# Altium footprint library RD_PCB_TEST1.PcbLib: 37 footprints (part 2 of 3)
Each footprint in its own frame and in the unit in brackets; x right, y up, seen from the top. Pads: shape width x height; smd on the part's side, far side on the other; paste and mask are expansions set on the pad; w line width, h text height; cw(c..) or ccw(c..) is an arc to the next point about the centre after c.
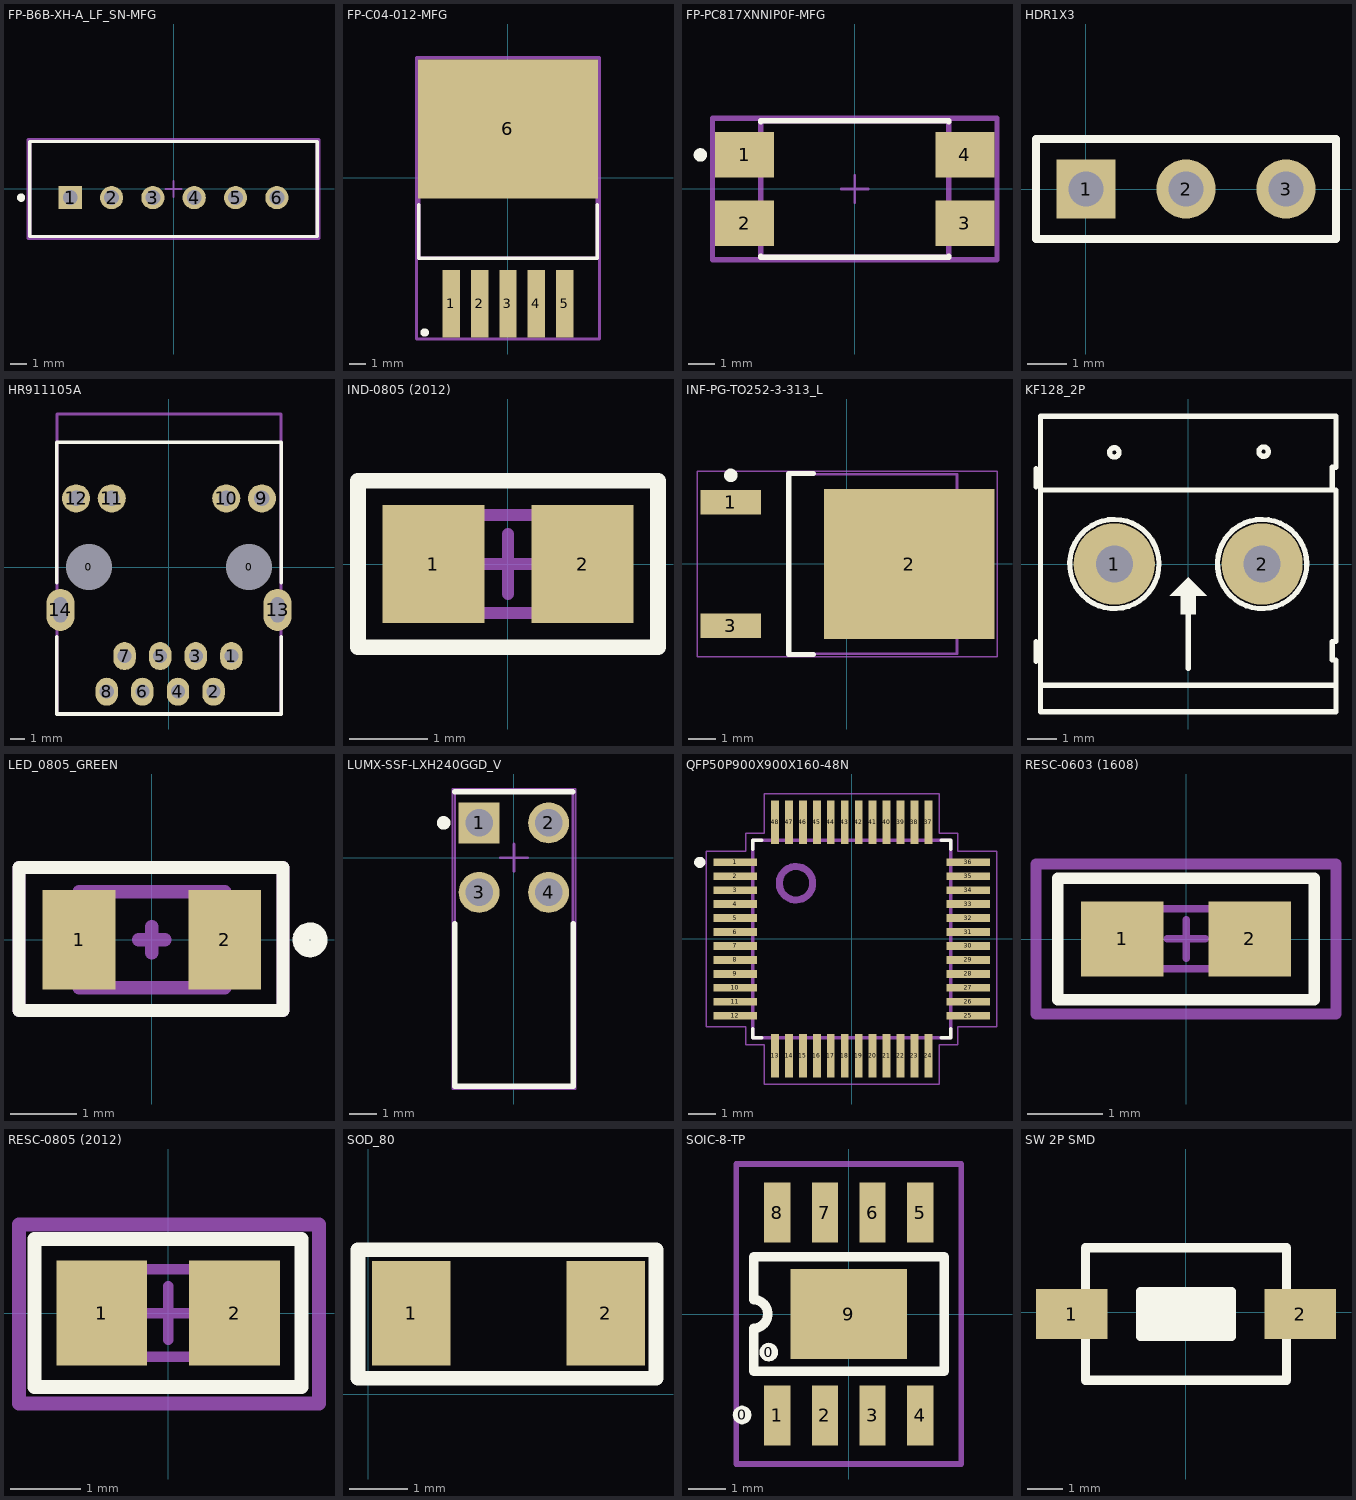
[diagram p1: the footprints below, top view; thin cyan lines are the x and y axes]

## FP-B6B-XH-A_LF_SN-MFG [mm]
pads (6):
  rect 1.4x1.4 hole 0.9 paste+0 mask+0: 1(-6.25,-0.525)
  round 1.4 hole 0.9 paste+0 mask+0: 2(-3.75,-0.525) 3(-1.25,-0.525) 4(1.25,-0.525) 5(3.75,-0.525) 6(6.25,-0.525)
Top Overlay:
  circle w0.25: c-9.225,-0.525 r0.125
  lines w0.2: -8.7,-2.875 8.7,-2.875 8.7,2.875 -8.7,2.875 -8.7,-2.875
Top Component Center:
  lines w0.1: -0.5,0 0.5,0 ; 0,-0.5 0,0.5
Top Assembly:
  lines w0.2: -8.8,-2.975 8.8,-2.975 8.8,2.975 -8.8,2.975 -8.8,-2.975
  text ".Designator" at 0,0.188 h1
Top 3D Body:
  lines w0.2: -8.7,-2.875 8.7,-2.875 8.7,2.875 -8.7,2.875 -8.7,-2.875
Top Courtyard:
  lines w0.2: -8.8,-2.975 8.8,-2.975 8.8,2.975 -8.8,2.975 -8.8,-2.975
3D body "Conn_JST_B6B-XH-A_LF_SN_eec.STEP": height 0.25, standoff 0, extent -8.8,-2.975 8.8,2.975

## FP-C04-012-MFG [mil]
height 21.65
pads (6):
  rect 41x159 smd paste+0 mask+0: 1(-134,-296.75) 2(-67,-296.75) 3(0,-296.75) 4(67,-296.75) 5(134,-296.75)
  rect 423x327 smd paste+0 mask+0: 6(0,114.75)
Top Overlay:
  circle w9.84: c-196.22,-364.89 r4.92
  lines w7.87: -210,-63.51 -210,-190 210,-190 210,-63.51
Top Component Center:
  lines w3.94: -19.68,0 19.69,0 ; 0,-19.68 0,19.69
Top Assembly:
  lines w7.87: -215.44,-380.19 -215.44,282.19 215.44,282.19 215.44,-380.19 -215.44,-380.19
  text ".Designator" at 0,-50.79 h30
Top 3D Body:
  lines w7.87: -210,-190 -210,190 210,190 210,-190 -210,-190
Top Courtyard:
  lines w7.87: -215.44,-380.19 -215.44,282.19 215.44,282.19 215.44,-380.19 -215.44,-380.19
3D body "IC_Microchip_MIC29302WU-TR_eec.STEP": height 10, standoff 0, extent -215.44,-380.19 215.44,282.19

## FP-PC817XNNIP0F-MFG [mm]
height 2
pads (4):
  rect 2.2x1.7 smd paste+0 mask+0: 1(-4.1,1.27) 2(-4.1,-1.27) 3(4.1,-1.27) 4(4.1,1.27)
Top Overlay:
  circle w0.25: c-5.75,1.27 r0.125
  lines w0.2: -3.5,-2.495 -3.5,-2.54 3.5,-2.54 3.5,-2.495 ; -3.5,2.495 -3.5,2.54 3.5,2.54 3.5,2.495
Top Component Center:
  lines w0.1: -0.5,0 0.5,0 ; 0,-0.5 0,0.5
Top Assembly:
  lines w0.2: -5.3,-2.64 -5.3,2.64 5.3,2.64 5.3,-2.64 -5.3,-2.64
Top 3D Body:
  lines w0.2: -3.5,-2.54 -3.5,2.54 3.5,2.54 3.5,-2.54 -3.5,-2.54
Top Courtyard:
  lines w0.2: -5.3,-2.64 -5.3,2.64 5.3,2.64 5.3,-2.64 -5.3,-2.64
3D body "Trans_SHARP_PC817XNNIP0F_eec.STEP": height 4.6, standoff 0, extent -5,-2.29 5,2.29

## HDR1X3 [mm] "Connector; Header; 3 Position"
height 14.2
pads (3):
  rect 1.5x1.5 hole 0.9: 1(0,0)
  round 1.5 hole 0.9: 2(2.54,0) 3(5.08,0)
Top Overlay:
  lines w0.2: -1.27,-1.27 -1.27,1.27 ; -1.27,-1.27 6.35,-1.27 6.35,1.27 -1.27,1.27 ; -1.27,-1.27 -1.27,1.27
3D body: height 1.5, standoff 0, extent -1.27,-1.27 1.27,1.27
3D body: height 1.5, standoff 0, extent 3.81,-1.27 6.35,1.27
3D body: height 1.5, standoff 0, extent 1.27,-1.27 3.81,1.27
3D body: height 7, standoff -1, extent -0.406,-0.406 0.39,0.392
3D body: height 7, standoff -1, extent 4.674,-0.406 5.47,0.392
3D body: height 7, standoff -1, extent 2.134,-0.406 2.93,0.392

## HR911105A [mm] "Hanrun HR911105A RJ-45 Connector"
height 0.55
pads (16):
  round 1 hole 3.3 unplated paste+0 mask+0.15: 0(-5.715,0) 0(5.715,0)
  oval 1.6x2 hole 1 paste+0 mask+0.15: 1(4.45,-6.35) 2(3.18,-8.89) 3(1.91,-6.35) 4(0.64,-8.89) 5(-0.63,-6.35) 6(-1.9,-8.89) 7(-3.17,-6.35) 8(-4.44,-8.89)
  round 2 hole 1.1 paste+0 mask+0.15: 9(6.625,4.9) 10(4.085,4.9) 11(-4.085,4.9) 12(-6.625,4.9)
  oval 2x3 hole 1 slot 1.8 at 90 deg paste+0 mask+0.15: 13(7.745,-3.05) 14(-7.745,-3.05)
Top Overlay:
  lines w0.25: -8,-4.975 -8,-10.48 8,-10.48 8,-4.975 ; -8,-1.125 -8,8.92 8,8.92 8,-1.125
Mechanical 1:
  lines w0.2: -8,-10.48 8,-10.48 8,10.92 -8,10.92 -8,-10.48
3D body "User Library-HR911105A.step": height 13.6, standoff -2.9, extent -7.94,-10.48 7.94,10.92

## IND-0805 (2012) [mm] "Resistor, Chip; 2.00 mm L X 1.25 mm W X 0.70 mm H body"
height 0.7
pads (2):
  rect 1.3x1.5 smd: 1(-0.95,0) 2(0.95,0)
Top Overlay:
  lines w0.2: -1.91,-1.06 -1.91,1.06 1.91,1.06 1.91,-1.06 -1.91,-1.06
Top 3D Body:
  lines w0.15: -0.381,0 0.381,0 ; 0,-0.381 0,0.381 ; -1.003,-0.625 0.997,-0.625 0.997,0.625 -1.003,0.625 -1.003,-0.625
Top Courtyard:
  text ".Designator" at -1.527,-0.381 h0.76
3D body "Coilcraft-0805AF.step": height 1.51, standoff -0.01, extent -1.145,-0.865 1.145,0.865

## INF-PG-TO252-3-313_L [mm] "DPAK, 3-Leads, Body 6.5x6.12mm, Pitch 2.28mm, IPC High Density"
height 2.35
pads (3):
  rect 2.25x0.9 smd: 1(-4.3,2.28) 3(-4.3,-2.28)
  rect 6.3x5.55 smd: 2(2.3,0)
Top Overlay:
  circle w0.25: c-4.3,3.28 r0.125
  lines w0.2: -1.25,-3.35 -2.15,-3.35 -2.15,3.35 -1.25,3.35
Top 3D Body:
  lines w0.1: -2.15,-3.325 -2.15,3.325 4.07,3.325 4.07,-3.325 -2.15,-3.325
Top Courtyard:
  lines w0.05: -5.55,-3.425 -5.55,3.425 5.55,3.425 5.55,-3.425 -5.55,-3.425
  lines w0.1: -0.5,0 0.5,0 ; 0,-0.5 0,0.5
3D body: height 2.35, standoff 0, extent -2.15,-3.325 4.07,3.325

## KF128_2P [mil] "Header 2,pitch 5.08mm, Colour Green"
height 559.06
pads (2):
  round 110 hole 50: 1(-100,0) 2(100,0)
Top Overlay:
  circle w7: c102,152 r6.4
  circle w7: c-100,151 r6.4
  region: 0,-18 -25,-43 -10,-43 -10,-68 10,-68 10,-43 25,-43
  lines w7: -206,-132 -206,-105 ; -206,104 -206,129 ; -200,-164 200,-164 ; -198,100 200,100 ; -61.17,46.23 ccw(c-100,0) -59.89,45.12 ; 0,-141 0,-31 ; 138.74,46.3 ccw(c100,0) 140.11,45.12 ; 195,-130 195,-105 ; 195,104 195,131 200,131 200,200 -200,200 -200,50 -200,-200 200,-200
  lines w7.01: 195,-130 200,-130 200,-164 200,-200 ; 195,-105 200,-105 200,100
3D body "User Library-KF128.step": height 562.99, standoff -196.85, extent -222.62,-206.69 1,206.69
3D body "User Library-KF128.step": height 562.99, standoff -196.85, extent -22.62,-206.69 201,206.69

## LED_0805_GREEN [mm] "LED SMD; Body 2.0 x 1.3 mm (LxW typ)"
height 2.54
pads (2):
  rect 1.1x1.5 smd: 1(-1.1,0) 2(1.1,0)
Top Overlay:
  circle w0.254: c2.388,0 r0.137
  lines w0.2: -2.007,-1.067 -2.007,1.092 1.981,1.092 1.981,-1.067 -2.007,-1.067
Top 3D Body:
  lines w0.2: -0.2,0 0.2,0 ; 0,-0.2 0,0.2 ; -1.1,-0.725 1.1,-0.725 1.1,0.725 -1.1,0.725 -1.1,-0.725
Top Courtyard:
  lines w0.2: -2.007,-1.067 1.981,-1.067 1.981,1.092 -2.007,1.092 -2.007,-1.067
  text ".Designator" at -1.524,-0.483 h0.76
3D body "User Library-led_0805-green.step": height 1.1, standoff 0, extent -1.01,-0.625 1.01,0.625

## LUMX-SSF-LXH240GGD_V [mm] "THD, 4-Leads, Body 10.77x4.32mm, Pitch 2.54mm"
height 9.9
pads (4):
  rect 1.5x1.5 hole 1: 1(-1.27,1.27)
  round 1.5 hole 1: 2(1.27,1.27) 3(-1.27,-1.27) 4(1.27,-1.27)
Top Overlay:
  circle w0.25: c-2.57,1.27 r0.125
  lines w0.2: -2.159,-2.42 -2.16,-8.36 2.16,-8.36 2.16,-2.421 2.159,-2.42 ; -2.159,2.41 2.159,2.41
Top 3D Body:
  lines w0.1: -2.16,-8.36 -2.16,2.41 2.16,2.41 2.16,-8.36 -2.16,-8.36
Top Courtyard:
  lines w0.05: -2.26,-8.46 -2.26,2.51 2.26,2.51 2.26,-8.46 -2.26,-8.46
  lines w0.1: -0.5,0 0.5,0 ; 0,-0.5 0,0.5
3D body "User Library-Lumex SSF-LXH240GGD.STEP": height 9.65, standoff -3.18, extent -2.16,-8.36 2.16,2.41

## QFP50P900X900X160-48N [mm]
height 0.55
pads (48):
  rect 1.56x0.28 smd: 1(-4.18,2.75) 2(-4.18,2.25) 3(-4.18,1.75) 4(-4.18,1.25) 5(-4.18,0.75) 6(-4.18,0.25) 7(-4.18,-0.25) 8(-4.18,-0.75) 9(-4.18,-1.25) 10(-4.18,-1.75) 11(-4.18,-2.25) 12(-4.18,-2.75) 25(4.18,-2.75) 26(4.18,-2.25) 27(4.18,-1.75) 28(4.18,-1.25) 29(4.18,-0.75) 30(4.18,-0.25) 31(4.18,0.25) 32(4.18,0.75) 33(4.18,1.25) 34(4.18,1.75) 35(4.18,2.25) 36(4.18,2.75)
  rect 0.28x1.56 smd: 13(-2.75,-4.18) 14(-2.25,-4.18) 15(-1.75,-4.18) 16(-1.25,-4.18) 17(-0.75,-4.18) 18(-0.25,-4.18) 19(0.25,-4.18) 20(0.75,-4.18) 21(1.25,-4.18) 22(1.75,-4.18) 23(2.25,-4.18) 24(2.75,-4.18) 37(2.75,4.18) 38(2.25,4.18) 39(1.75,4.18) 40(1.25,4.18) 41(0.75,4.18) 42(0.25,4.18) 43(-0.25,4.18) 44(-0.75,4.18) 45(-1.25,4.18) 46(-1.75,4.18) 47(-2.25,4.18) 48(-2.75,4.18)
Top Overlay:
  circle w0.2: c-5.45,2.75 r0.1
  lines w0.127: -3.55,-3.22 -3.55,-3.55 -3.22,-3.55 ; -3.55,3.22 -3.55,3.55 -3.22,3.55 ; 3.22,-3.55 3.55,-3.55 3.55,-3.22 ; 3.22,3.55 3.55,3.55 3.55,3.22
Top 3D Body:
  drawing of 53 lines, arcs and shapes, not listed
Top Courtyard:
  lines w0.05: -5.21,-3.14 -3.8,-3.14 -3.8,-3.8 -3.14,-3.8 -3.14,-5.21 3.14,-5.21 3.14,-3.8 3.8,-3.8 3.8,-3.14 5.21,-3.14 5.21,3.14 3.8,3.14 3.8,3.8 3.14,3.8 3.14,5.21 -3.14,5.21 -3.14,3.8 -3.8,3.8 -3.8,3.14 -5.21,3.14 -5.21,-3.14
3D body "W5500--3DModel-STEP-56544.STEP": height 1.98, standoff 0.38, extent -4.5,-4.5 4.5,4.5

## RESC-0603 (1608) [mm] "Resistor, Chip; 1.60 mm L X 0.80 mm W X 0.50 mm H body"
height 0.5
pads (2):
  rect 1.1x1 smd mask+0.1: 1(-0.85,0) 2(0.85,0)
Top Overlay:
  lines w0.15: -1.71,-0.81 -1.71,0.81 1.71,0.81 1.71,-0.81 -1.71,-0.81
Top 3D Body:
  lines w0.1: -0.253,0 0.255,0 ; 0.001,-0.254 0.001,0.254 ; -0.799,-0.4 -0.799,0.4 0.801,0.4 0.801,-0.4 -0.799,-0.4
Top Courtyard:
  lines w0.15: -2,-1 -2,1 2,1 2,-1 -2,-1
  text ".Designator" at -1.015,-0.305 h1.2
3D body "RESC160X80X50L37.STEP": height 0.5, standoff 0, extent -0.799,-0.4 0.801,0.4

## RESC-0805 (2012) [mm] "Resistor, Chip; 2.00 mm L X 1.25 mm W X 0.70 mm H body"
height 0.7
pads (2):
  rect 1.3x1.5 smd: 1(-0.95,0) 2(0.95,0)
Top Overlay:
  lines w0.2: -1.91,-1.06 1.91,-1.06 1.91,1.06 -1.91,1.06 -1.91,-1.06
Top 3D Body:
  lines w0.15: -0.381,0 0.381,0 ; 0,-0.381 0,0.381 ; -1.003,-0.625 -1.003,0.625 0.997,0.625 0.997,-0.625 -1.003,-0.625
Top Courtyard:
  lines w0.2: -2.134,-1.295 -2.134,1.27 2.159,1.27 2.159,-1.295 -2.134,-1.295
  text ".Designator" at -1.527,-0.381 h0.76
3D body "User Library-RESC2012X05N.step": height 0.45, standoff 0, extent -1.003,-0.625 0.997,0.625

## SOD_80 [mm]
height 0.55
pads (2):
  rect 1.35x1.8 smd: 1(0.738,1.397) 2(4.088,1.397)
Top Overlay:
  lines w0.254: 4.953,0.279 -0.178,0.279 -0.178,2.489 1.524,2.489 4.953,2.489 4.953,0.33
3D body "User Library-Diode MELF.step": height 1.45, standoff -0.05, extent 0.663,0.661 4.163,2.159

## SOIC-8-TP [mm] "SOIC 8 pin with Thermal Pad"
height 2.54
pads (11):
  round 0.5 on Top Overlay: 0(-2.845,-2.692) 0(-2.134,-1.016)
  rect 0.7x1.6 smd: 1(-1.905,-2.7) 2(-0.635,-2.7) 3(0.635,-2.7) 4(1.905,-2.7) 5(1.905,2.7) 6(0.635,2.7) 7(-0.635,2.7) 8(-1.905,2.7)
  rect 3.1x2.4 smd: 9(0,0)
Top Overlay:
  lines w0.254: -2.54,-1.524 -2.54,-0.381 ccw(c-2.54,0) -2.54,0.381 -2.54,1.524 2.54,1.524 2.54,-1.524 -2.54,-1.524
Top Courtyard:
  lines w0.15: -0.5,0 0.5,0 ; 0,-0.5 0,0.5 ; -3,-4 3,-4 3,4 -3,4 -3,-4
3D body "SOICm08a.stp": height 1.63, standoff 0, extent -2.45,-3 2.45,3

## SW 2P SMD [mm]
height 0.55
pads (2):
  rect 2x1.4 smd: 1(-3.2,-0.051) 2(3.2,-0.051)
Top Overlay:
  rectangle: -1.27,-0.686 1.27,0.584
  lines w0.254: -2.819,-0.762 -2.819,-1.905 2.819,-1.905 2.819,-0.762 ; -2.819,0.66 -2.819,1.803 2.819,1.803 2.819,0.66 ; -1.27,-0.686 -1.27,0.584 1.27,0.584 1.27,-0.686 -1.27,-0.686
3D body "User Library-Button-SMD.step": height 2.5, standoff 0, extent -3.05,-1.901 3.05,1.799